# EAGLE library part AD5627RBRMZ-1 (library AD5627RBRMZ)
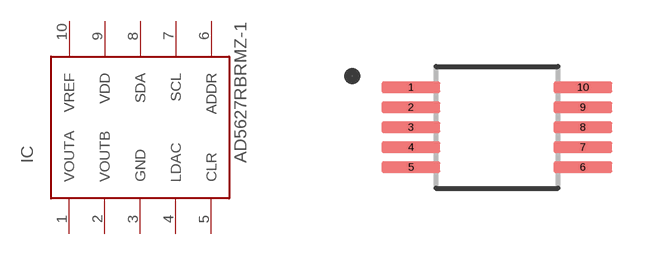
[diagram p0: symbol with the pads of SOP50P490X110-10N; footprint SOP50P490X110-10N]

Designator prefix IC

## AD5627RBRMZ-1  [SOP50P490X110-10N]
1  VOUTA
2  VOUTB
3  GND  pwr
4  LDAC
5  CLR
6  ADDR
7  SCL
8  SDA
9  VDD  pwr
10  VREF

## Footprint SOP50P490X110-10N (pad centres in mm)
smd 1.47 x 0.28: 1 -2.15,1; 2 -2.15,0.5; 3 -2.15,0; 4 -2.15,-0.5; 5 -2.15,-1; 6 2.15,-1; 7 2.15,-0.5; 8 2.15,0; 9 2.15,0.5; 10 2.15,1